# Altium schematic symbol library M27C512-90F6-ZIF40.SchLib: 1 symbol
Pins are listed as number, name and electrical type; pins without a type are passive.

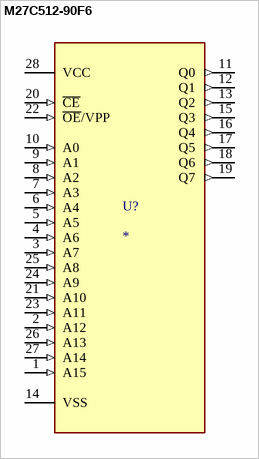
[diagram p0: symbol M27C512-90F6]

## M27C512-90F6
designator U?
EPROM - UV Memory IC 512Kb (64K x 8) Parallel 90 ns 28-CDIP Frit Seal with Window; MF: STMicroelectronics; MP: M27C512-90F6; SnapEDA_Link: https://www.snapeda.com/parts/M27C512-90F6/STMicroelectronics/view-part/?ref=snap; Package: CDIP-28 STMicroelectronics; Value: *; Check_prices: https://www.snapeda.com/parts/M27C512-90F6/STMicroelectronics/view-part/?ref=eda
footprint DIP254P1524X572-28
pins: 1 A15 (in), 2 A12 (in), 3 A7 (in), 4 A6 (in), 5 A5 (in), 6 A4 (in), 7 A3 (in), 8 A2 (in), 9 A1 (in), 10 A0 (in), 11 Q0 (out), 12 Q1 (out), 13 Q2 (out), 14 VSS (power), 15 Q3 (out), 16 Q4 (out), 17 Q5 (out), 18 Q6 (out), 19 Q7 (out), 20 ~{CE} (in), 21 A10 (in), 22 ~{OE}/VPP (in), 23 A11 (in), 24 A9 (in), 25 A8 (in), 26 A13 (in), 27 A14 (in), 28 VCC (power)